# EAGLE library part F1X8 (library J-HDR2.54mm)
FEMALE HEADER 8POS
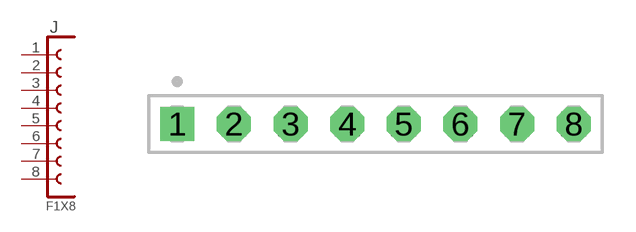
[diagram p7: symbol with the pads of F1X8; footprint F1X8]

Designator prefix J

## F1X8  [F1X8]
1  1  pas
2  2  pas
3  3  pas
4  4  pas
5  5  pas
6  6  pas
7  7  pas
8  8  pas

## Footprint F1X8 (pad centres in mm)
FEMALE HEADER 8POS
drill 1.016 square: 1 0,0
drill 1.016 octagon: 2 2.54,0; 3 5.08,0; 4 7.62,0; 5 10.16,0; 6 12.7,0; 7 15.24,0; 8 17.78,0